# EAGLE library part 80C88MAX (library micro-harris)
MICROCONTROLLER/MEMORY DEVICE
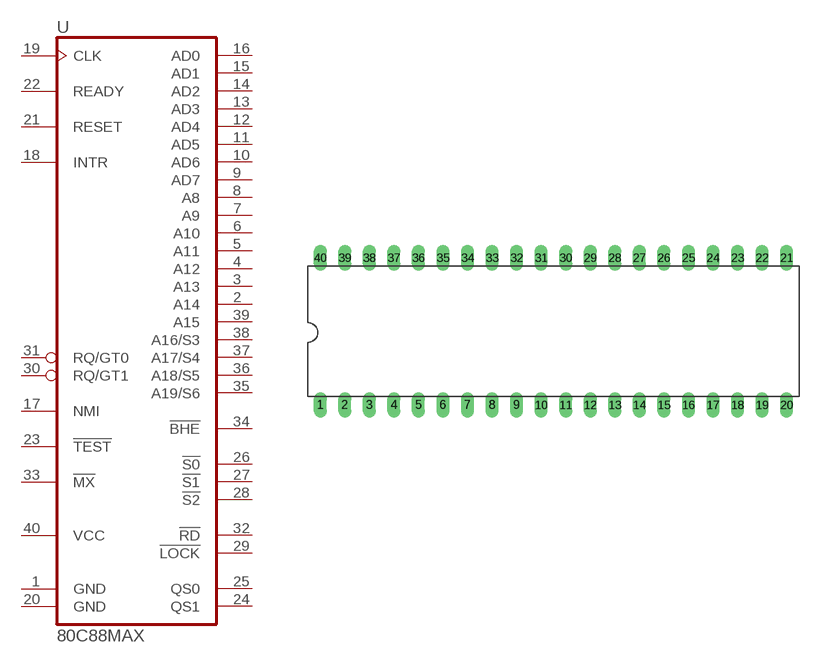
[diagram p17: symbol with the pads of DIL40; footprint DIL40]

Designator prefix U

## 80C88MAX (MF: INTERSIL; MPN: IP80C88; OC_FARNELL: unknown; OC_NEWARK: 05B7353)  [DIL40]
1  GND  pwr
2  A14  out
3  A13  out
4  A12  out
5  A11  out
6  A10  out
7  A9  out
8  A8  out
9  AD7
10  AD6
11  AD5
12  AD4
13  AD3
14  AD2
15  AD1
16  AD0
17  NMI  in
18  INTR  in
19  CLK  in
20  GND  pwr
21  RESET  in
22  READY  in
23  !TEST  in
24  QS1  out
25  QS0  out
26  !S0  out
27  !S1  out
28  !S2  out
29  !LOCK  out
30  RQ/GT1
31  RQ/GT0
32  !RD  out
33  !MX  in
34  !BHE  out
35  A19/S6  out
36  A18/S5  out
37  A17/S4  out
38  A16/S3  out
39  A15  out
40  VCC  pwr

## Footprint DIL40 (pad centres in mm)
Dual In Line Package
drill 0.813 long: 1 -24.13,-7.62; 2 -21.59,-7.62; 3 -19.05,-7.62; 4 -16.51,-7.62; 5 -13.97,-7.62; 6 -11.43,-7.62; 7 -8.89,-7.62; 8 -6.35,-7.62; 9 -3.81,-7.62; 10 -1.27,-7.62; 11 1.27,-7.62; 12 3.81,-7.62; 13 6.35,-7.62; 14 8.89,-7.62; 15 11.43,-7.62; 16 13.97,-7.62; 17 16.51,-7.62; 18 19.05,-7.62; 19 21.59,-7.62; 20 24.13,-7.62; 21 24.13,7.62; 22 21.59,7.62; 23 19.05,7.62; 24 16.51,7.62; 25 13.97,7.62; 26 11.43,7.62; 27 8.89,7.62; 28 6.35,7.62; 29 3.81,7.62; 30 1.27,7.62; 31 -1.27,7.62; 32 -3.81,7.62; 33 -6.35,7.62; 34 -8.89,7.62; 35 -11.43,7.62; 36 -13.97,7.62; 37 -16.51,7.62; 38 -19.05,7.62; 39 -21.59,7.62; 40 -24.13,7.62